# Altium schematic symbol library DRV5023_Hall.SchLib: 1 symbol
Pins are listed as number, name and electrical type; pins without a type are passive.

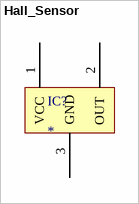
[diagram p0: symbol Hall_Sensor]

## Hall_Sensor
designator IC?
DRV5023
footprint PCBComponent_1
pins: 1 VCC, 2 OUT, 3 GND